# Altium integrated library STMicroelectronics Battery Management.IntLib: 1 symbol
Pins are listed as number, name and electrical type; pins without a type are passive.

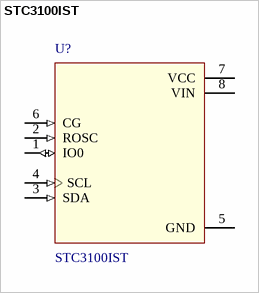
[diagram p0: symbol STC3100IST]

## STC3100IST
designator U?
STC3100 Series 5.5 V Battery Monitor IC with Coulomb Counter/Gas Gauge - MSOP-8; MF: STMicroelectronics; Availability: Unavailable; Package: TSSOP-8 STMicroelectronics; SnapEDA_Link: https://www.snapeda.com/parts/STC3100IST/STMicroelectronics/view-part/?ref=snap; MP: STC3100IST; Price: None; Value: *
footprint *SOIC65P490X110-8N
pins: 1 IO0 (io), 2 ROSC (in), 3 SDA (in), 4 SCL (in), 5 GND (power), 6 CG (in), 7 VCC (power), 8 VIN (power)